# EAGLE library part 1408УД1 (library operational-amplifier)
бКО.347.299-01 ТУ 1408УД1РВК, 1408УД1Р1ВК - высоковольтный ОУ с малыми входными токами и внутренней коррекцией, предназначенный для использования в радиоэлектронной аппаратуре специального назначения. Отличительные особенности: • ориентирован на применение в схемах с питанием от бортовой сети; • защита выходов от короткого замыкания; • является полным аналогом ИС 1408УД1 (ДП «Квазар-ИС», г.Киев); • полная внутренняя частотная коррекция; • малый ток потребления и входной ток; • широкий диапазон входных и выходных напряжений. Микросхема в исполненении РВК покрыта золотом, в исполнении Р1ВК - никелем. Производитель: АО "Восход"-КРЛЗ г. Калуга.
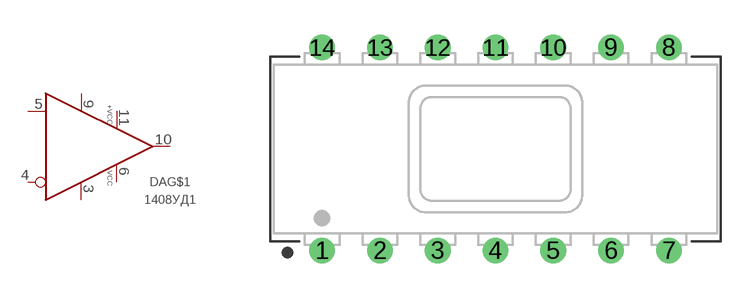
[diagram p1: symbol with the pads of 201.14-10; footprint 201.14-10]

Designator prefix DA; gates G$1=OPERATIONAL-AMPLIFIER-BALANCE G$2=POWER_2

## 1408УД1РВК  [201.14-10]
3  G$1:!BAL  pas
4  G$1:!IN  in
5  G$1:IN  in
6  G$2:-VCC  pwr
9  G$1:BAL  pas
10  G$1:OUT  out
11  G$2:+VCC  pwr

## 1408УД1Р1ВК  [201.14-10]
Pads as for 201.14-10

## Footprint 201.14-10 (pad centres in mm)
drill 0.6: 1 -7.5,-4.4; 2 -5,-4.4; 3 -2.5,-4.4; 4 0,-4.4; 5 2.5,-4.4; 6 5,-4.4; 7 7.5,-4.4; 8 7.5,4.4; 9 5,4.4; 10 2.5,4.4; 11 0,4.4; 12 -2.5,4.4; 13 -5,4.4; 14 -7.5,4.4